# Altium footprint library Glass Fuse with holder 5x20mm.PcbLib: 27 footprints (part 2 of 2)
Each footprint in its own frame and in the unit in brackets; x right, y up, seen from the top. Pads: shape width x height; smd on the part's side, far side on the other; paste and mask are expansions set on the pad; w line width, h text height; cw(c..) or ccw(c..) is an arc to the next point about the centre after c.
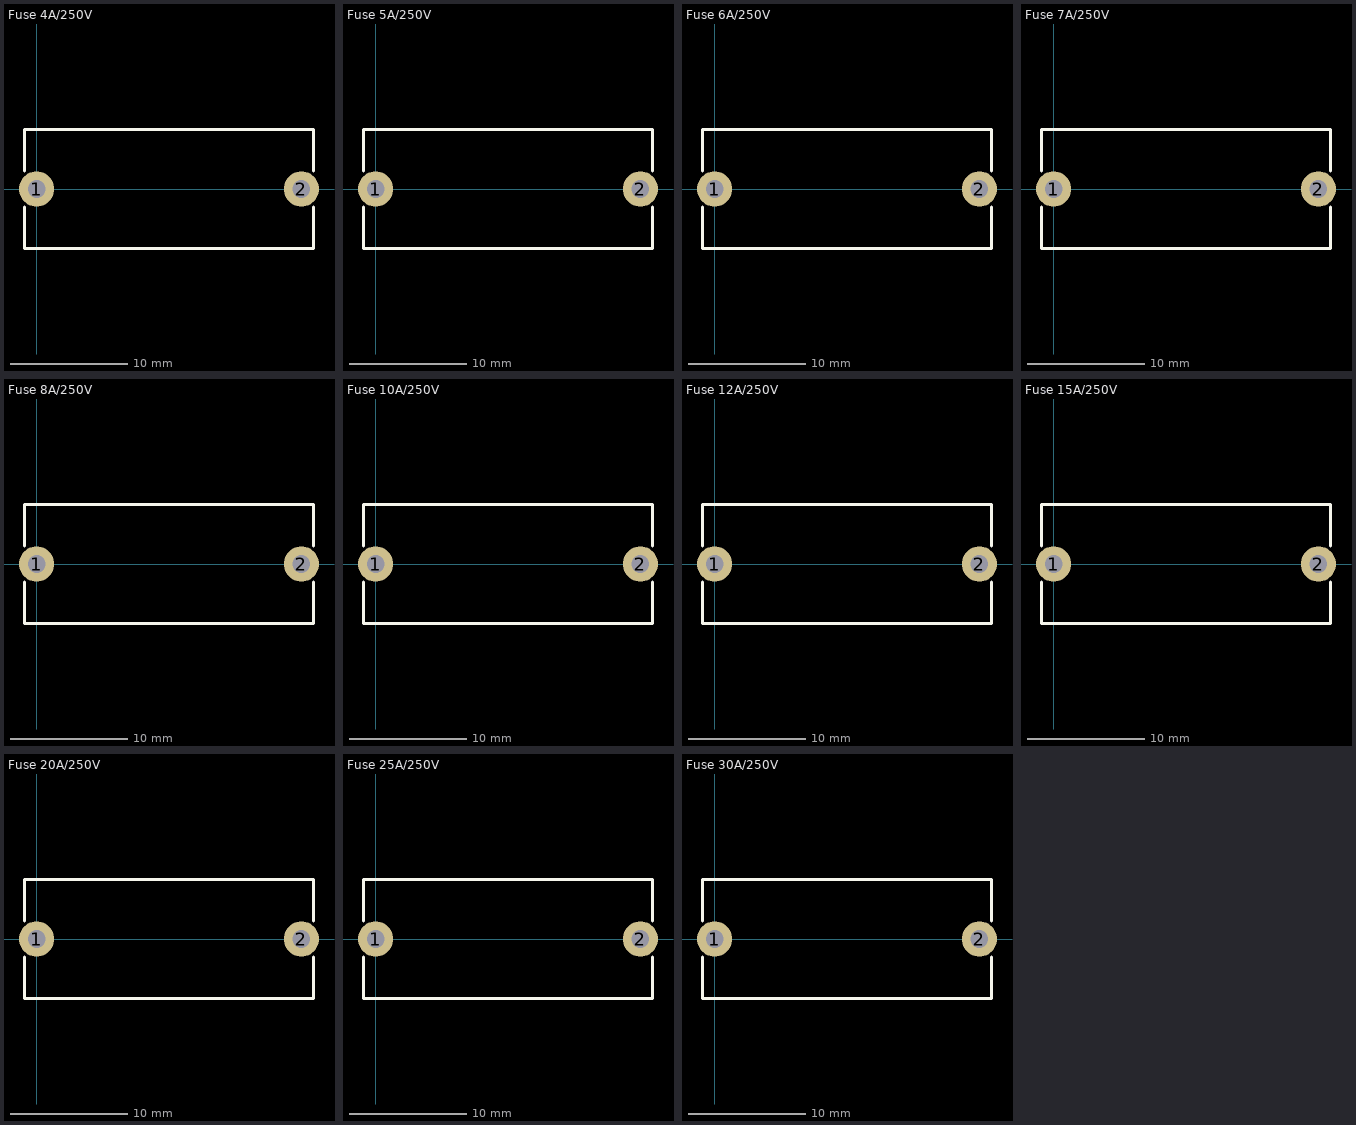
[diagram p1: the footprints below, top view; thin cyan lines are the x and y axes]

## Fuse 4A/250V [mm] "FUSE GLASS 4A 250VAC 5X20MM"
pads (2):
  round 3 hole 1.5: 1(0,0) 2(22.6,0)
Top Overlay:
  lines w0.254: -1.016,-1.524 -1.016,-5.08 23.622,-5.08 23.622,-1.524 ; -1.016,1.524 -1.016,5.08 23.622,5.08 23.622,1.524
3D body "User Library-FUSIVEL.step": height 9.36, standoff 4.36, extent 1.3,-2.5 21.3,2.5
3D body "User Library-FHP-105.step": height 10.8, standoff -3, extent -0.8,-4.9 23.4,4.9

## Fuse 5A/250V [mm] "FUSE GLASS 5A 250VAC 5X20MM"
pads (2):
  round 3 hole 1.5: 1(0,0) 2(22.6,0)
Top Overlay:
  lines w0.254: -1.016,-1.524 -1.016,-5.08 23.622,-5.08 23.622,-1.524 ; -1.016,1.524 -1.016,5.08 23.622,5.08 23.622,1.524
3D body "User Library-FUSIVEL.step": height 9.36, standoff 4.36, extent 1.3,-2.5 21.3,2.5
3D body "User Library-FHP-105.step": height 10.8, standoff -3, extent -0.8,-4.9 23.4,4.9

## Fuse 6A/250V [mm] "FUSE GLASS 6A 250VAC 5X20MM"
pads (2):
  round 3 hole 1.5: 1(0,0) 2(22.6,0)
Top Overlay:
  lines w0.254: -1.016,-1.524 -1.016,-5.08 23.622,-5.08 23.622,-1.524 ; -1.016,1.524 -1.016,5.08 23.622,5.08 23.622,1.524
3D body "User Library-FUSIVEL.step": height 9.36, standoff 4.36, extent 1.3,-2.5 21.3,2.5
3D body "User Library-FHP-105.step": height 10.8, standoff -3, extent -0.8,-4.9 23.4,4.9

## Fuse 7A/250V [mm] "FUSE GLASS 7A 250VAC 5X20MM"
pads (2):
  round 3 hole 1.5: 1(0,0) 2(22.6,0)
Top Overlay:
  lines w0.254: -1.016,-1.524 -1.016,-5.08 23.622,-5.08 23.622,-1.524 ; -1.016,1.524 -1.016,5.08 23.622,5.08 23.622,1.524
3D body "User Library-FUSIVEL.step": height 9.36, standoff 4.36, extent 1.3,-2.5 21.3,2.5
3D body "User Library-FHP-105.step": height 10.8, standoff -3, extent -0.8,-4.9 23.4,4.9

## Fuse 8A/250V [mm] "FUSE GLASS 8A 250VAC 5X20MM"
pads (2):
  round 3 hole 1.5: 1(0,0) 2(22.6,0)
Top Overlay:
  lines w0.254: -1.016,-1.524 -1.016,-5.08 23.622,-5.08 23.622,-1.524 ; -1.016,1.524 -1.016,5.08 23.622,5.08 23.622,1.524
3D body "User Library-FUSIVEL.step": height 9.36, standoff 4.36, extent 1.3,-2.5 21.3,2.5
3D body "User Library-FHP-105.step": height 10.8, standoff -3, extent -0.8,-4.9 23.4,4.9

## Fuse 10A/250V [mm] "FUSE GLASS 10A 250VAC 5X20MM"
pads (2):
  round 3 hole 1.5: 1(0,0) 2(22.6,0)
Top Overlay:
  lines w0.254: -1.016,-1.524 -1.016,-5.08 23.622,-5.08 23.622,-1.524 ; -1.016,1.524 -1.016,5.08 23.622,5.08 23.622,1.524
3D body "User Library-FHP-105.step": height 10.8, standoff -3, extent -0.8,-4.9 23.4,4.9
3D body "User Library-FUSIVEL.step": height 9.36, standoff 4.36, extent 1.3,-2.5 21.3,2.5

## Fuse 12A/250V [mm] "FUSE GLASS 12A 250VAC 5X20MM"
pads (2):
  round 3 hole 1.5: 1(0,0) 2(22.6,0)
Top Overlay:
  lines w0.254: -1.016,-1.524 -1.016,-5.08 23.622,-5.08 23.622,-1.524 ; -1.016,1.524 -1.016,5.08 23.622,5.08 23.622,1.524
3D body "User Library-FUSIVEL.step": height 9.36, standoff 4.36, extent 1.3,-2.5 21.3,2.5
3D body "User Library-FHP-105.step": height 10.8, standoff -3, extent -0.8,-4.9 23.4,4.9

## Fuse 15A/250V [mm] "FUSE GLASS 15A 250VAC 5X20MM"
pads (2):
  round 3 hole 1.5: 1(0,0) 2(22.6,0)
Top Overlay:
  lines w0.254: -1.016,-1.524 -1.016,-5.08 23.622,-5.08 23.622,-1.524 ; -1.016,1.524 -1.016,5.08 23.622,5.08 23.622,1.524
3D body "User Library-FUSIVEL.step": height 9.36, standoff 4.36, extent 1.3,-2.5 21.3,2.5
3D body "User Library-FHP-105.step": height 10.8, standoff -3, extent -0.8,-4.9 23.4,4.9

## Fuse 20A/250V [mm] "FUSE GLASS 20A 250VAC 5X20MM"
pads (2):
  round 3 hole 1.5: 1(0,0) 2(22.6,0)
Top Overlay:
  lines w0.254: -1.016,-1.524 -1.016,-5.08 23.622,-5.08 23.622,-1.524 ; -1.016,1.524 -1.016,5.08 23.622,5.08 23.622,1.524
3D body "User Library-FUSIVEL.step": height 9.36, standoff 4.36, extent 1.3,-2.5 21.3,2.5
3D body "User Library-FHP-105.step": height 10.8, standoff -3, extent -0.8,-4.9 23.4,4.9

## Fuse 25A/250V [mm] "FUSE GLASS 25A 250VAC 5X20MM"
pads (2):
  round 3 hole 1.5: 1(0,0) 2(22.6,0)
Top Overlay:
  lines w0.254: -1.016,-1.524 -1.016,-5.08 23.622,-5.08 23.622,-1.524 ; -1.016,1.524 -1.016,5.08 23.622,5.08 23.622,1.524
3D body "User Library-FUSIVEL.step": height 9.36, standoff 4.36, extent 1.3,-2.5 21.3,2.5
3D body "User Library-FHP-105.step": height 10.8, standoff -3, extent -0.8,-4.9 23.4,4.9

## Fuse 30A/250V [mm] "FUSE GLASS 30A 250VAC 5X20MM"
pads (2):
  round 3 hole 1.5: 1(0,0) 2(22.6,0)
Top Overlay:
  lines w0.254: -1.016,-1.524 -1.016,-5.08 23.622,-5.08 23.622,-1.524 ; -1.016,1.524 -1.016,5.08 23.622,5.08 23.622,1.524
3D body "User Library-FHP-105.step": height 10.8, standoff -3, extent -0.8,-4.9 23.4,4.9
3D body "User Library-FUSIVEL.step": height 9.36, standoff 4.36, extent 1.3,-2.5 21.3,2.5